# Altium footprint library Footprints.PcbLib: 4 footprints
Each footprint in its own frame and in the unit in brackets; x right, y up, seen from the top. Pads: shape width x height; smd on the part's side, far side on the other; paste and mask are expansions set on the pad; w line width, h text height; cw(c..) or ccw(c..) is an arc to the next point about the centre after c.
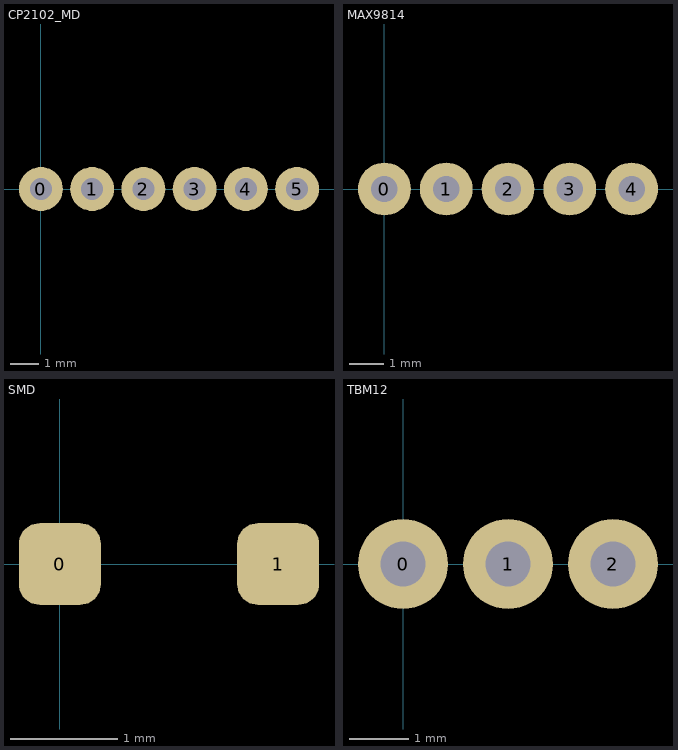
[diagram p0: the footprints below, top view; thin cyan lines are the x and y axes]

## CP2102_MD [mil]
pads (6):
  round 60 hole 30: 0(0,0) 1(70,0) 2(140,0) 3(210,0) 4(280,0) 5(350,0)

## MAX9814 [mil]
pads (5):
  round 60 hole 30: 0(0,0) 1(70,0) 2(140,0) 3(210,0) 4(280,0)

## SMD [mil]
pads (2):
  rrect50% 30x30 smd: 0(0,0) 1(80,0)

## TBM12 [mil]
pads (3):
  round 60 hole 30: 0(0,0) 1(70,0) 2(140,0)